# Altium footprint library Res_Bourns_3296W-1-502LF_eec_0.PcbLib: 1 footprints
Each footprint in its own frame and in the unit in brackets; x right, y up, seen from the top. Pads: shape width x height; smd on the part's side, far side on the other; paste and mask are expansions set on the pad; w line width, h text height; cw(c..) or ccw(c..) is an arc to the next point about the centre after c.
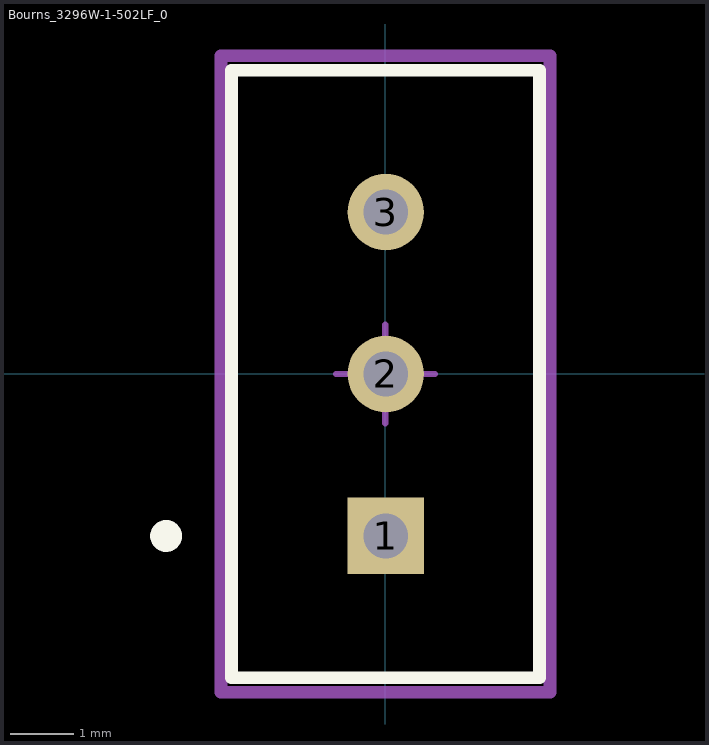
[diagram p0: the footprint, top view; thin cyan lines are the x and y axes]

## Bourns_3296W-1-502LF_0 [mm]
pads (3):
  rect 1.2x1.2 hole 0.7 paste-1000 mask+0: 1(0.005,-2.54)
  round 1.2 hole 0.7 paste-1000 mask+0: 2(0.005,0) 3(0.005,2.54)
Top Overlay:
  circle w0.25: c-3.44,-2.54 r0.125
  lines w0.2: -2.415,-4.765 2.415,-4.765 2.415,4.765 -2.415,4.765 -2.415,-4.765
Mechanical 10:
  lines w0.2: -2.58,-4.99 2.58,-4.99 2.58,4.99 -2.58,4.99 -2.58,-4.99
  text ".Designator" at 0,0 h1
Mechanical 12:
  lines w0.15: -2.415,-4.765 2.415,-4.765 2.415,4.765 -2.415,4.765 -2.415,-4.765
Mechanical 15:
  lines w0.1: -0.774,0 0.774,0 ; 0,-0.774 0,0.774
  lines w0.2: -2.58,-4.99 2.58,-4.99 2.58,4.99 -2.58,4.99 -2.58,-4.99
3D body "3dmodel.step": height 0.25, standoff 0, extent -2.58,-4.99 2.58,4.99